# Altium footprint library hsbest2.PcbLib: 365 footprints (part 12 of 23)
Each footprint in its own frame and in the unit in brackets; x right, y up, seen from the top. Pads: shape width x height; smd on the part's side, far side on the other; paste and mask are expansions set on the pad; w line width, h text height; cw(c..) or ccw(c..) is an arc to the next point about the centre after c.
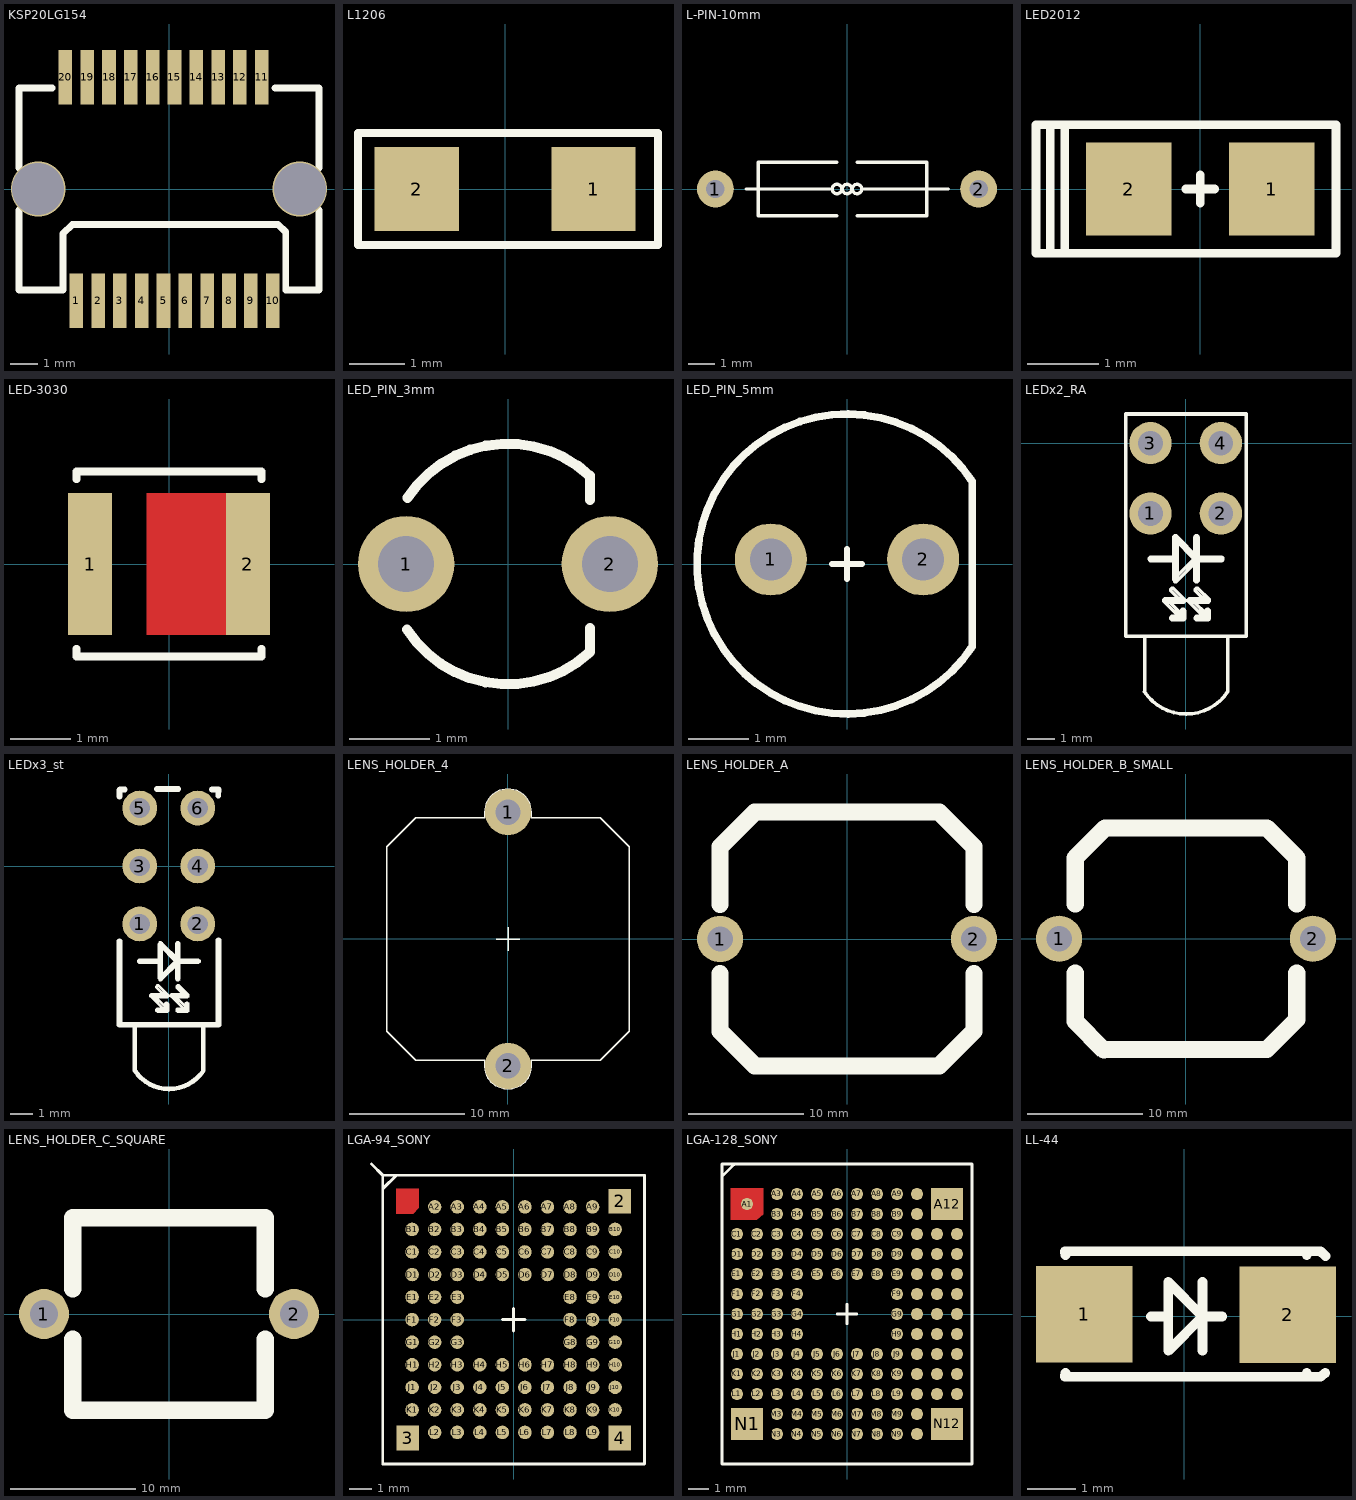
[diagram p11: the footprints below, top view; thin cyan lines are the x and y axes]

## KSP20LG154 [mm]
pads (20):
  rect 0.5x2 smd paste+0 mask+0.051: 1(-3.4,-4.1) 2(-2.6,-4.1) 3(-1.8,-4.1) 4(-1,-4.1) 5(-0.2,-4.1) 6(0.6,-4.1) 7(1.4,-4.1) 8(2.2,-4.1) 9(3,-4.1) 10(3.8,-4.1) 11(3.4,4.1) 12(2.6,4.1) 13(1.8,4.1) 14(1,4.1) 15(0.2,4.1) 16(-0.6,4.1) 17(-1.4,4.1) 18(-2.2,4.1) 19(-3,4.1) 20(-3.8,4.1)
via 4.8,0 diameter 2 hole 1.9
via -4.8,0 diameter 2 hole 1.9
Top Overlay:
  lines w0.254: -5.499,-0.772 -5.499,-3.701 -3.881,-3.701 -3.881,-1.633 -3.546,-1.3 0.302,-1.3 4,-1.3 4.28,-1.58 4.28,-3.701 5.499,-3.701 5.499,-0.772 ; -5.499,0.772 -5.499,3.701 -4.28,3.701 ; 3.881,3.701 5.4,3.701 5.499,3.701 5.499,0.772

## L1206 [mil]
pads (2):
  rect 60x60 smd: 1(63,0) 2(-63,0)
Top Overlay:
  lines w6: -104.86,-39.91 108.96,-39.91 108.96,39.92 -104.86,39.92 -104.86,-39.91

## L-PIN-10mm [mm]
pads (2):
  round 1.4 hole 0.7 unplated: 1(-5,0) 2(5,0)
Top Overlay:
  circle w0.125: c0.381,0 r0.18
  circle w0.125: c0,0 r0.18
  circle w0.125: c-0.381,0 r0.18
  lines w0.125: -3.825,0 -0.635,0 ; -0.381,-1.016 -3.375,-1.016 -3.375,1.016 -0.381,1.016 ; 0.381,-1.016 3.025,-1.016 3.025,1.016 0.381,1.016 ; 0.635,0 3.85,0

## LED2012 [mil]
pads (2):
  rect 47x51 smd: 1(39.37,0) 2(-39.37,0)
Top Overlay:
  lines w4.72: -7.87,0 7.87,0 ; 0,-7.87 0,7.87 ; -82.68,-35.43 -90.55,-35.43 -90.55,35.43 -82.68,35.43 ; -82.68,-35.43 -82.68,35.43 ; -82.68,-35.43 -74.8,-35.43 ; -82.68,35.43 -74.8,35.43 ; -74.8,-35.43 74.8,-35.43 74.8,35.43 -74.8,35.43 ; -74.8,-35.43 -74.8,35.43

## LED-3030 [mm]
pads (2):
  rect 0.725x2.35 smd: 1(-1.3,0) 2(1.3,0)
Top Layer:
  rectangle: -0.375,-1.175 1.55,1.175
Top Overlay:
  lines w0.127: -1.525,-1.4 -1.525,-1.525 1.525,-1.525 1.525,-1.4 ; -1.525,1.4 -1.525,1.525 1.525,1.525 1.525,1.4
Top Solder:
  rectangle: -0.475,-1.275 0.925,1.275

## LED_PIN_3mm [mm]
pads (2):
  round 1.2 hole 0.7: 1(-1.27,0) 2(1.27,0)
Top Overlay:
  lines w0.127: -1.363,-0.086 -1.401,-0.048 -1.401,0 -1.363,0.038 -1.34,0.038 ; -1.258,-0.817 ccw(c0,0) 1.023,-1.097 1.023,-0.8 ; -1.252,0.826 cw(c0,0) 1.021,1.099 ; 1.023,0.8 1.023,1.1

## LED_PIN_5mm [mm]
pads (2):
  round 1.2 hole 0.7: 1(-1.27,0.075) 2(1.27,0.075)
Top Overlay:
  lines w0.1: -0.25,0 0.25,0 ; 0,-0.25 0,0.25
  lines w0.127: 2.087,1.376 2.087,-1.377 cw(c0,0) 2.088,1.376

## LEDx2_RA [mil]
pads (4):
  round 60 hole 35: 1(-50,-100) 2(50,-100) 3(-50,0) 4(50,0)
Top Overlay:
  drawing of 163 lines, arcs and shapes, not listed

## LEDx3_st [mil]
pads (6):
  round 60 hole 35: 1(-50,-100) 2(50,-100) 3(-50,0) 4(50,0) 5(-50,100) 6(50,100)
Top Overlay:
  drawing of 164 lines, arcs and shapes, not listed

## LENS_HOLDER_4 [mm]
pads (2):
  round 4 / inner round 3.6 / far side round 4 hole 2.2: 1(0.003,10.996) 2(0.003,-11.004)
Top Overlay:
  lines w0.125: -0.997,-0.004 1.003,-0.004 ; 0.003,-1.004 0.003,0.996 ; -10.497,-8.004 -10.497,7.996 -7.997,10.496 -1.997,10.496 -1.997,10.996 cw(c0.003,10.996) 2.003,10.996 2.003,10.496 8.003,10.496 10.503,7.996 10.503,-8.004 8.003,-10.504 2.003,-10.504 2.003,-10.574 2.013,-10.837 cw(c0.003,-10.988) -2.007,-10.837 -1.997,-10.574 -1.997,-10.504 -7.997,-10.504 -10.497,-8.004
Multi-Layer:
  lines w1.5: -3.997,-10.504 -7.997,-10.504 -10.497,-8.004 -10.497,7.996 -7.997,10.496 -3.997,10.496 ; 4.003,-10.504 8.003,-10.504 10.503,-8.004 10.503,7.996 8.003,10.496 4.003,10.496

## LENS_HOLDER_A [mm]
pads (2):
  round 4 / inner round 3.6 / far side round 4.4 hole 2.2: 1(-11,0) 2(11,0)
Top Overlay:
  lines w1.5: -11,-3 -11,-8 -8,-11 8,-11 11,-8 11,-3 ; -11,3 -11,8 -8,11 8,11 11,8 11,3

## LENS_HOLDER_B_SMALL [mm]
pads (2):
  round 4 / inner round 3.6 / far side round 4.4 hole 2.2: 1(-11,0) 2(11,0)
Top Overlay:
  lines w1.5: -9.6,-3 -9.6,-7.164 -7.112,-9.652 ; -9.6,3 -9.6,7 -7,9.6 7,9.6 9.6,7 9.6,3 ; -7,-9.6 7,-9.6 9.6,-7 9.6,-3

## LENS_HOLDER_C_SQUARE [mm]
pads (2):
  round 4 / inner round 3.6 / far side round 4.4 hole 2.2: 1(-10,0) 2(10,0)
Top Overlay:
  lines w1.4: -7.7,-2 -7.7,-7.7 7.7,-7.7 7.7,-2 ; -7.7,2 -7.7,7.7 7.7,7.7 7.7,2

## LGA-94_SONY [mm]
pads (97):
  rect 1x1.1 smd: 2(4.7,5.25) 3(-4.7,-5.25) 4(4.7,-5.25)
  round 0.6 smd: A2(-3.5,5) A3(-2.5,5) A4(-1.5,5) A5(-0.5,5) A6(0.5,5) A7(1.5,5) A8(2.5,5) A9(3.5,5) B1(-4.5,4) B2(-3.5,4) B3(-2.5,4) B4(-1.5,4) B5(-0.5,4) B6(0.5,4) B7(1.5,4) B8(2.5,4) B9(3.5,4) B10(4.5,4) C1(-4.5,3) C2(-3.5,3) C3(-2.5,3) C4(-1.5,3) C5(-0.5,3) C6(0.5,3) C7(1.5,3) C8(2.5,3) C9(3.5,3) C10(4.5,3) D1(-4.5,2) D2(-3.5,2) D3(-2.5,2) D4(-1.5,2) D5(-0.5,2) D6(0.5,2) D7(1.5,2) D8(2.5,2) D9(3.5,2) D10(4.5,2) E1(-4.5,1) E2(-3.5,1) E3(-2.5,1) E8(2.5,1) E9(3.5,1) E10(4.5,1) F1(-4.5,0) F2(-3.5,0) F3(-2.5,0) F8(2.5,0) F9(3.5,0) F10(4.5,0) G1(-4.5,-1) G2(-3.5,-1) G3(-2.5,-1) G8(2.5,-1) G9(3.5,-1) G10(4.5,-1) H1(-4.5,-2) H2(-3.5,-2) H3(-2.5,-2) H4(-1.5,-2) H5(-0.5,-2) H6(0.5,-2) H7(1.5,-2) H8(2.5,-2) H9(3.5,-2) H10(4.5,-2) J1(-4.5,-3) J2(-3.5,-3) J3(-2.5,-3) J4(-1.5,-3) J5(-0.5,-3) J6(0.5,-3) J7(1.5,-3) J8(2.5,-3) J9(3.5,-3) J10(4.5,-3) K1(-4.5,-4) K2(-3.5,-4) K3(-2.5,-4) K4(-1.5,-4) K5(-0.5,-4) K6(0.5,-4) K7(1.5,-4) K8(2.5,-4) K9(3.5,-4) K10(4.5,-4) L2(-3.5,-5) L3(-2.5,-5) L4(-1.5,-5) L5(-0.5,-5) L6(0.5,-5) L7(1.5,-5) L8(2.5,-5) L9(3.5,-5)
Top Layer:
  region: -5.2,5.8 -5.2,4.7 -4.45,4.7 -4.2,4.95 -4.2,5.8
Top Overlay:
  lines w0.125: -6.3,6.9 -5.8,6.4 ; -0.5,0 0,0 ; 0,-0.5 0,0 ; 0,0.5 0,0 ; 0.5,0 0,0 ; -5.8,-6.4 -5.8,6.4 ; -5.8,-6.4 5.8,-6.4 ; -5.8,-6.4 5.8,-6.4 ; -5.8,-6.4 -5.8,5.8 -5.2,6.4 5.8,6.4 ; -5.8,6.4 5.8,6.4 ; 5.8,-6.4 5.8,6.4 ; 5.8,-6.4 5.8,6.4

## LGA-128_SONY [mm]
pads (132):
  round 0.6 smd paste+0 mask+0: A1(-5,5.5)
  round 0.6 smd: A3(-3.5,6) A4(-2.5,6) A5(-1.5,6) A6(-0.5,6) A7(0.5,6) A8(1.5,6) A9(2.5,6) A10(3.5,6) B3(-3.5,5) B4(-2.5,5) B5(-1.5,5) B6(-0.5,5) B7(0.5,5) B8(1.5,5) B9(2.5,5) B10(3.5,5) C1(-5.5,4) C2(-4.5,4) C3(-3.5,4) C4(-2.5,4) C5(-1.5,4) C6(-0.5,4) C7(0.5,4) C8(1.5,4) C9(2.5,4) C10(3.5,4) C11(4.5,4) C12(5.5,4) D1(-5.5,3) D2(-4.5,3) D3(-3.5,3) D4(-2.5,3) D5(-1.5,3) D6(-0.5,3) D7(0.5,3) D8(1.5,3) D9(2.5,3) D10(3.5,3) D11(4.5,3) D12(5.5,3) E1(-5.5,2) E2(-4.5,2) E3(-3.5,2) E4(-2.5,2) E5(-1.5,2) E6(-0.5,2) E7(0.5,2) E8(1.5,2) E9(2.5,2) E10(3.5,2) E11(4.5,2) E12(5.5,2) F1(-5.5,1) F2(-4.5,1) F3(-3.5,1) F4(-2.5,1) F9(2.5,1) F10(3.5,1) F11(4.5,1) F12(5.5,1) G1(-5.5,0) G2(-4.5,0) G3(-3.5,0) G4(-2.5,0) G9(2.5,0) G10(3.5,0) G11(4.5,0) G12(5.5,0) H1(-5.5,-1) H2(-4.5,-1) H3(-3.5,-1) H4(-2.5,-1) H9(2.5,-1) H10(3.5,-1) H11(4.5,-1) H12(5.5,-1) J1(-5.5,-2) J2(-4.5,-2) J3(-3.5,-2) J4(-2.5,-2) J5(-1.5,-2) J6(-0.5,-2) J7(0.5,-2) J8(1.5,-2) J9(2.5,-2) J10(3.5,-2) J11(4.5,-2) J12(5.5,-2) K1(-5.5,-3) K2(-4.5,-3) K3(-3.5,-3) K4(-2.5,-3) K5(-1.5,-3) K6(-0.5,-3) K7(0.5,-3) K8(1.5,-3) K9(2.5,-3) K10(3.5,-3) K11(4.5,-3) K12(5.5,-3) L1(-5.5,-4) L2(-4.5,-4) L3(-3.5,-4) L4(-2.5,-4) L5(-1.5,-4) L6(-0.5,-4) L7(0.5,-4) L8(1.5,-4) L9(2.5,-4) L10(3.5,-4) L11(4.5,-4) L12(5.5,-4) M3(-3.5,-5) M4(-2.5,-5) M5(-1.5,-5) M6(-0.5,-5) M7(0.5,-5) M8(1.5,-5) M9(2.5,-5) M10(3.5,-5) N3(-3.5,-6) N4(-2.5,-6) N5(-1.5,-6) N6(-0.5,-6) N7(0.5,-6) N8(1.5,-6) N9(2.5,-6) N10(3.5,-6)
  rect 1.6x1.6 smd: A12(5,5.5) N1(-5,-5.5) N12(5,-5.5)
Top Layer:
  region: -5.8,6.3 -5.8,4.7 -4.5,4.7 -4.2,5 -4.2,6.3
Top Overlay:
  lines w0.125: -6.25,6.875 -5.65,7.475 ; -0.5,0 0,0 ; 0,-0.5 0,0 ; 0,0.5 0,0 ; 0.5,0 0,0 ; -6.25,-7.5 -6.25,7.5 6.25,7.5 6.25,-7.5 -6.25,-7.5

## LL-44 [mm]
pads (2):
  rrect0% 2x2 smd: 1(-2.069,0.038) 2(2.144,0.031)
Top Overlay:
  lines w0.203: -2.461,-1.176 -2.475,-1.257 2.525,-1.257 ; -2.461,1.262 -2.475,1.343 2.525,1.343 ; -0.686,-0.008 -0.33,-0.008 ; 0.381,-0.719 0.381,0.703 ; 0.787,-0.008 0.381,-0.008 ; 2.539,-1.176 2.525,-1.257 ; 2.539,1.262 2.525,1.343 ; 2.921,-1.176 2.825,-1.257 2.704,-1.257 2.525,-1.257 ; 2.925,1.243 2.825,1.343 2.704,1.343 2.525,1.343 ; 0.381,-0.008 -0.33,0.703 -0.33,-0.719 0.381,-0.008